# Altium footprint library DSD_Aerobits_RPI4_OLED.PcbLib: 32 footprints (part 1 of 2)
Each footprint in its own frame and in the unit in brackets; x right, y up, seen from the top. Pads: shape width x height; smd on the part's side, far side on the other; paste and mask are expansions set on the pad; w line width, h text height; cw(c..) or ccw(c..) is an arc to the next point about the centre after c.
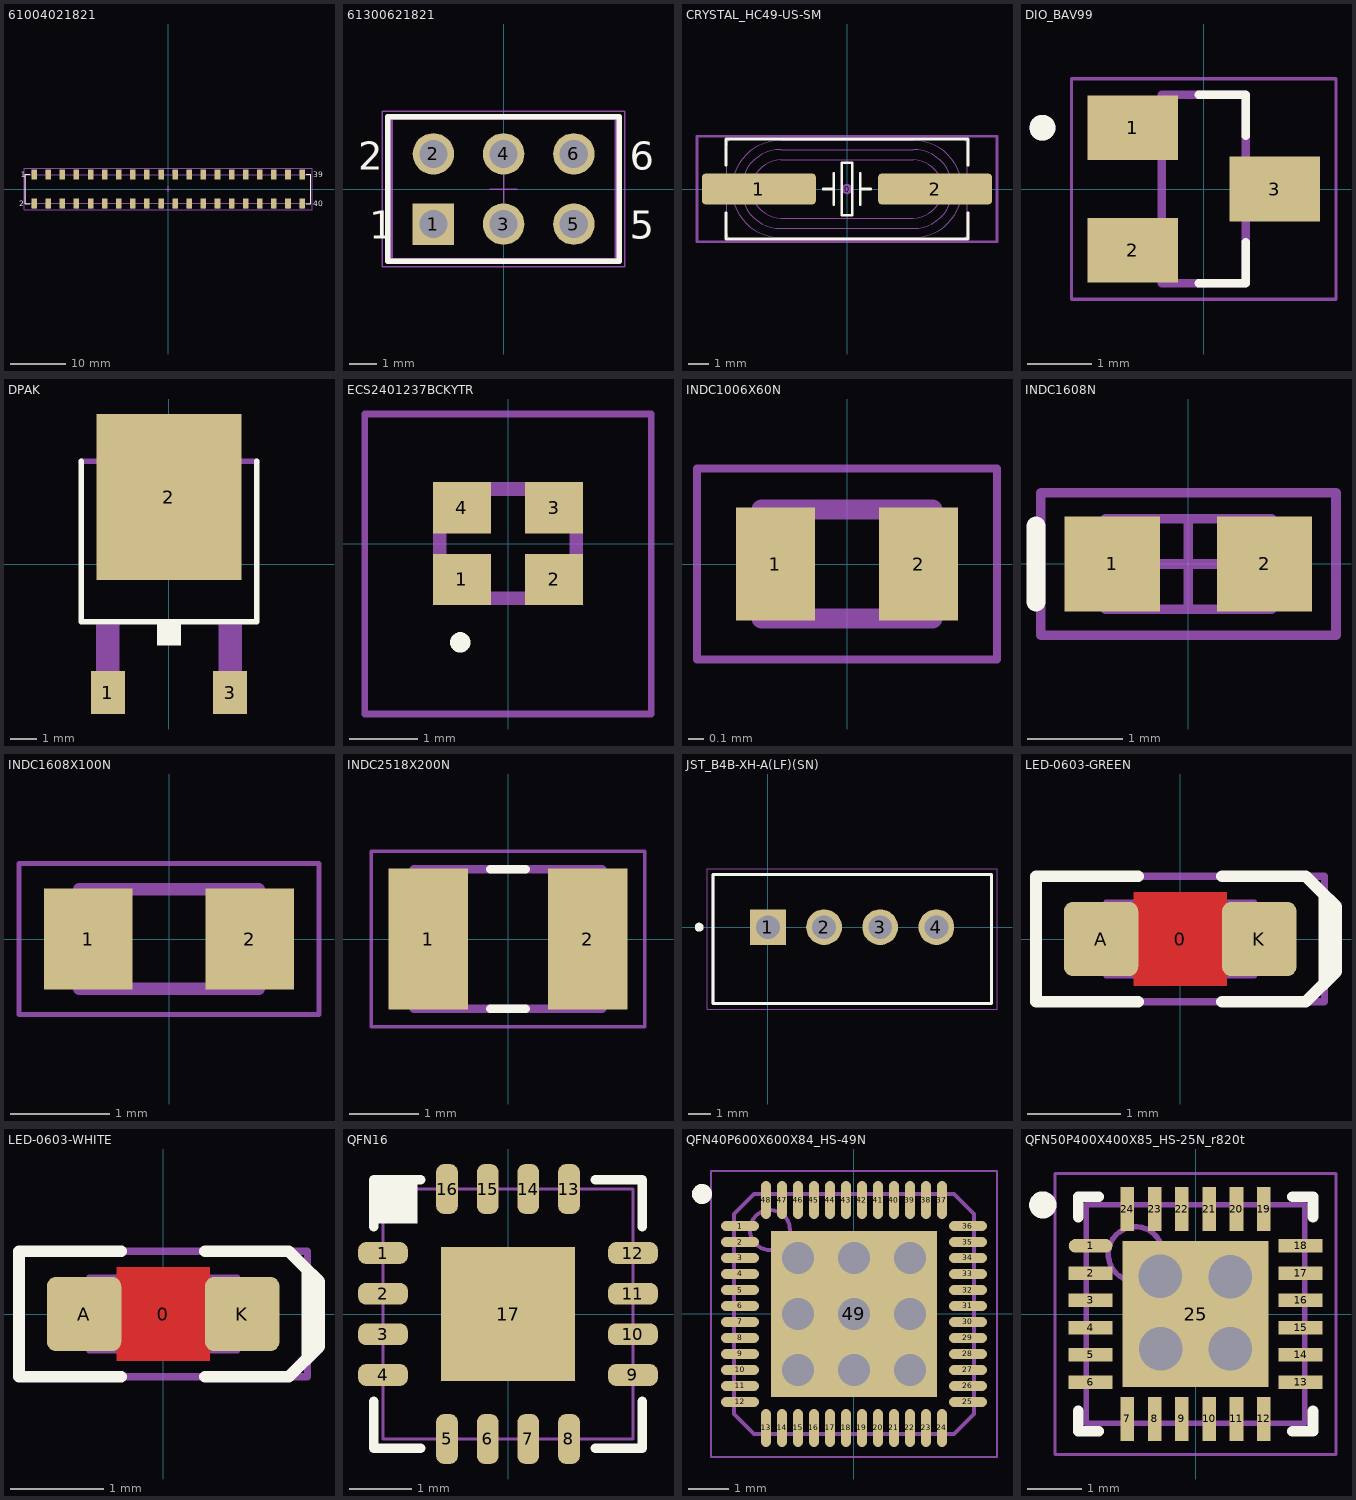
[diagram p0: the footprints below, top view; thin cyan lines are the x and y axes]

## 61004021821 [mm]
pads (40):
  rect 1x1.8 smd: 1(-24.13,2.6) 2(-24.13,-2.6) 3(-21.59,2.6) 4(-21.59,-2.6) 5(-19.05,2.6) 6(-19.05,-2.6) 7(-16.51,2.6) 8(-16.51,-2.6) 9(-13.97,2.6) 10(-13.97,-2.6) 11(-11.43,2.6) 12(-11.43,-2.6) 13(-8.89,2.6) 14(-8.89,-2.6) 15(-6.35,2.6) 16(-6.35,-2.6) 17(-3.81,2.6) 18(-3.81,-2.6) 19(-1.27,2.6) 20(-1.27,-2.6) 21(1.27,2.6) 22(1.27,-2.6) 23(3.81,2.6) 24(3.81,-2.6) 25(6.35,2.6) 26(6.35,-2.6) 27(8.89,2.6) 28(8.89,-2.6) 29(11.43,2.6) 30(11.43,-2.6) 31(13.97,2.6) 32(13.97,-2.6) 33(16.51,2.6) 34(16.51,-2.6) 35(19.05,2.6) 36(19.05,-2.6) 37(21.59,2.6) 38(21.59,-2.6) 39(24.13,2.6) 40(24.13,-2.6)
Top Overlay:
  lines w0.2: -24.91,-2.615 -25.725,-2.615 -25.725,2.615 -24.91,2.615 ; 24.91,-2.615 25.725,-2.615 25.725,2.615 24.91,2.615
  text "1" at -26.51,2.1 h1.02
  text "2" at -26.86,-3.15 h1.02
  text "39" at 26.16,2.1 h1.02
  text "40" at 26.16,-3.15 h1.02
Mechanical 13:
  lines w0.1: -24.45,-2.54 -24.45,-3.35 -23.81,-3.35 -23.81,-2.54 ; -24.45,2.54 -24.45,3.35 -23.81,3.35 -23.81,2.54 ; -21.91,-2.54 -21.91,-3.35 -21.27,-3.35 -21.27,-2.54 ; -21.91,2.54 -21.91,3.35 -21.27,3.35 -21.27,2.54 ; -19.37,-2.54 -19.37,-3.35 -18.73,-3.35 -18.73,-2.54 ; -19.37,2.54 -19.37,3.35 -18.73,3.35 -18.73,2.54 ; -16.83,-2.54 -16.83,-3.35 -16.19,-3.35 -16.19,-2.54 ; -16.83,2.54 -16.83,3.35 -16.19,3.35 -16.19,2.54 ; -14.29,-2.54 -14.29,-3.35 -13.65,-3.35 -13.65,-2.54 ; -14.29,2.54 -14.29,3.35 -13.65,3.35 -13.65,2.54 ; -11.75,-2.54 -11.75,-3.35 -11.11,-3.35 -11.11,-2.54 ; -11.75,2.54 -11.75,3.35 -11.11,3.35 -11.11,2.54 ; -9.21,-2.54 -9.21,-3.35 -8.57,-3.35 -8.57,-2.54 ; -9.21,2.54 -9.21,3.35 -8.57,3.35 -8.57,2.54 ; -6.67,-2.54 -6.67,-3.35 -6.03,-3.35 -6.03,-2.54 ; -6.67,2.54 -6.67,3.35 -6.03,3.35 -6.03,2.54 ; -4.13,-2.54 -4.13,-3.35 -3.49,-3.35 -3.49,-2.54 ; -4.13,2.54 -4.13,3.35 -3.49,3.35 -3.49,2.54 ; -1.59,-2.54 -1.59,-3.35 -0.95,-3.35 -0.95,-2.54 ; -1.59,2.54 -1.59,3.35 -0.95,3.35 -0.95,2.54 ; 0.95,-2.54 0.95,-3.35 1.59,-3.35 1.59,-2.54 ; 0.95,2.54 0.95,3.35 1.59,3.35 1.59,2.54 ; 3.49,-2.54 3.49,-3.35 4.13,-3.35 4.13,-2.54 ; 3.49,2.54 3.49,3.35 4.13,3.35 4.13,2.54 ; 6.03,-2.54 6.03,-3.35 6.67,-3.35 6.67,-2.54 ; 6.03,2.54 6.03,3.35 6.67,3.35 6.67,2.54 ; 8.57,-2.54 8.57,-3.35 9.21,-3.35 9.21,-2.54 ; 8.57,2.54 8.57,3.35 9.21,3.35 9.21,2.54 ; 11.11,-2.54 11.11,-3.35 11.75,-3.35 11.75,-2.54 ; 11.11,2.54 11.11,3.35 11.75,3.35 11.75,2.54 ; 13.65,-2.54 13.65,-3.35 14.29,-3.35 14.29,-2.54 ; 13.65,2.54 13.65,3.35 14.29,3.35 14.29,2.54 ; 16.19,-2.54 16.19,-3.35 16.83,-3.35 16.83,-2.54 ; 16.19,2.54 16.19,3.35 16.83,3.35 16.83,2.54 ; 18.73,-2.54 18.73,-3.35 19.37,-3.35 19.37,-2.54 ; 18.73,2.54 18.73,3.35 19.37,3.35 19.37,2.54 ; 21.27,-2.54 21.27,-3.35 21.91,-3.35 21.91,-2.54 ; 21.27,2.54 21.27,3.35 21.91,3.35 21.91,2.54 ; 23.81,-2.54 23.81,-3.35 24.45,-3.35 24.45,-2.54 ; 23.81,2.54 23.81,3.35 24.45,3.35 24.45,2.54 ; -25.65,-2.54 25.65,-2.54 25.65,2.54 -25.65,2.54 -25.65,-2.54
Mechanical 15:
  lines w0.05: -0.5,0 0.5,0 ; 0,-0.5 0,0.5 ; -25.925,-3.7 25.925,-3.7 25.925,3.7 -25.925,3.7 -25.925,-3.7
3D body "61004021821.stp": height 7.5, standoff 0, extent -25.4,-3.35 25.4,3.35

## 61300621821 [mm]
pads (6):
  rect 1.5x1.5 hole 1.02: 1(-2.54,-1.27)
  round 1.5 hole 1.02: 2(-2.54,1.27) 3(0,-1.27) 4(0,1.27) 5(2.54,-1.27) 6(2.54,1.27)
Top Overlay:
  lines w0.2: -4.185,-2.615 -4.185,2.615 4.185,2.615 4.185,-2.615 -4.185,-2.615
  text "5" at 4.57,-1.8 h1.02
  text "6" at 4.57,0.7 h1.02
  text "2" at -5.27,0.7 h1.02
  text "1" at -4.87,-1.8 h1.02
Mechanical 13:
  lines w0.1: -4.06,-2.54 4.06,-2.54 4.06,2.54 -4.06,2.54 -4.06,-2.54
Mechanical 15:
  lines w0.05: -0.5,0 0.5,0 ; 0,-0.5 0,0.5 ; -4.385,-2.815 4.385,-2.815 4.385,2.815 -4.385,2.815 -4.385,-2.815
3D body "61300621821.stp": height 8.45, standoff -3.05, extent -4.06,-2.54 4.06,2.54

## CRYSTAL_HC49-US-SM [mm]
pads (3):
  round 0.508 on Mech15: 0(0,0)
  rrect25% 5.5x1.5 smd: 1(-4.25,0) 2(4.25,0)
Top Overlay:
  lines w0.127: -5.842,-1.143 -5.842,-2.413 5.842,-2.413 5.842,-1.143 ; -5.842,1.143 -5.842,2.413 5.842,2.413 5.842,1.143 ; -1.143,0 -0.635,0 ; -0.635,-0.762 -0.635,0.762 ; 0.635,-0.762 0.635,0.762 ; 0.635,0 1.143,0 ; -0.254,-1.27 -0.254,1.27 0.254,1.27 0.254,-1.27 -0.254,-1.27
Mechanical 13:
  lines w0.05: -5.8,-0.45 -6.4,-0.45 -6.4,0.45 -5.8,0.45 ; 5.8,-0.45 6.4,-0.45 6.4,0.45 5.8,0.45 ; -5.8,-2.165 ccw(c-5.55,-2.165) -5.55,-2.415 5.55,-2.415 ccw(c5.55,-2.165) 5.8,-2.165 5.8,2.165 ccw(c5.55,2.165) 5.55,2.415 -5.55,2.415 ccw(c-5.55,2.165) -5.8,2.165 -5.8,-2.165 ; -3.2,-2.35 cw(c-3.2,0) -3.2,2.35 3.2,2.35 cw(c3.2,0) 3.2,-2.35 -3.2,-2.35 ; -3.2,-1.9 cw(c-3.2,0) -3.2,1.9 3.2,1.9 cw(c3.2,0) 3.2,-1.9 -3.2,-1.9 ; -3.2,-1.4 cw(c-3.2,0) -3.2,1.4 3.2,1.4 cw(c3.2,0) 3.2,-1.4 -3.2,-1.4
Mechanical 15:
  lines w0.127: -7.239,-2.54 -7.239,2.54 7.239,2.54 7.239,-2.54 -7.239,-2.54
3D body "Crystal HC49_US-SM.STEP": height 4.29, standoff -0.01, extent -6.4,-2.415 6.4,2.415

## DIO_BAV99 [mm]
pads (3):
  rect 1.4x1 smd: 1(-1.1,0.95) 2(-1.1,-0.95) 3(1.1,0)
Top Overlay:
  circle w0.2: c-2.5,0.95 r0.1
  lines w0.127: -0.08,-1.46 0.65,-1.46 0.65,-0.82 ; -0.08,1.46 0.65,1.46 0.65,0.82
Mechanical 13:
  circle w0.2: c-2.5,0.95 r0.1
  lines w0.127: -0.65,-1.46 -0.65,1.46 0.65,1.46 0.65,-1.46 -0.65,-1.46
Mechanical 15:
  lines w0.05: -2.05,-1.71 -2.05,1.71 2.05,1.71 2.05,-1.71 -2.05,-1.71
3D body "step_temp.STEP": height 1.2, standoff 0, extent -1.2,-1.46 1.2,1.46

## DPAK [mm]
pads (3):
  rect 1.27x1.6 smd: 1(-2.28,-4.8) 3(2.28,-4.8)
  rect 5.4x6.2 smd: 2(0,2.5)
Top Overlay:
  region: 0.432,-3.027 -0.432,-3.027 -0.432,-2.261 0.432,-2.261
  lines w0.203: -3.277,3.835 -3.277,-2.159 3.277,-2.159 3.277,3.835
Mechanical 13:
  region: 2.565,4.648 2.565,3.937 -2.565,3.937 -2.565,4.648 -2.108,5.105 2.108,5.105
  region: 2.718,-5.163 1.856,-5.163 1.856,-2.261 2.718,-2.261
  region: -1.854,-5.166 -2.723,-5.166 -2.723,-2.261 -1.854,-2.261
  lines w0.203: -3.277,3.835 3.277,3.835 ; -2.565,3.937 2.565,3.937 2.565,4.648 2.108,5.105 -2.108,5.105 -2.565,4.648 -2.565,3.937
3D body "User Library-TO-252-3.step": height 2.41, standoff 0, extent -3.35,-5.461 3.35,4.891

## ECS2401237BCKYTR [mm]
pads (4):
  rect 0.85x0.75 smd: 1(-0.675,-0.525) 2(0.675,-0.525) 3(0.675,0.525) 4(-0.675,0.525)
Top Overlay:
  lines w0.2: -0.7,-1.5 cw(c-0.7,-1.45) -0.7,-1.4 ; -0.7,-1.5 ccw(c-0.7,-1.45) -0.7,-1.4 ; -0.7,-1.5 cw(c-0.7,-1.45) -0.7,-1.4
Mechanical 13:
  lines w0.2: -1,-0.8 -1,0.8 1,0.8 1,-0.8 -1,-0.8
Mechanical 15:
  lines w0.1: -2.1,-2.5 -2.1,1.9 2.1,1.9 2.1,-2.5 -2.1,-2.5
3D body "ECS-240-12-37B-CKY-TR.stp": height 0.6, standoff 0, extent -1.025,-0.825 1.025,0.825

## INDC1006X60N [mm]
pads (2):
  rect 0.51x0.73 smd: 1(-0.46,0) 2(0.46,0)
Mechanical 13:
  lines w0.127: -0.55,-0.35 -0.55,0.35 0.55,0.35 0.55,-0.35 -0.55,-0.35
Mechanical 15:
  lines w0.05: -0.965,-0.615 -0.965,0.615 0.965,0.615 0.965,-0.615 -0.965,-0.615
3D body "LQW15AN8N2G00D.STEP": height 0.6, standoff 0, extent -0.54,-0.3 0.46,0.3

## INDC1608N [mm]
pads (2):
  rect 1x1 smd: 1(-0.8,0) 2(0.8,0)
Top Overlay:
  lines w0.2: -1.6,-0.4 -1.6,0.4
Mechanical 13:
  lines w0.1: -0.875,-0.475 0.875,-0.475 0.875,0.475 -0.875,0.475 -0.875,-0.475
Mechanical 15:
  lines w0.1: -0.475,0 0.475,0 ; 0,-0.475 0,0.475 ; -1.55,-0.75 1.55,-0.75 1.55,0.75 -1.55,0.75 -1.55,-0.75
3D body: height 0.71, standoff 0, extent -0.875,-0.475 0.875,0.475

## INDC1608X100N [mm]
pads (2):
  rect 0.89x1.02 smd: 1(-0.814,0) 2(0.814,0)
Mechanical 13:
  lines w0.127: -0.9,-0.5 -0.9,0.5 0.9,0.5 0.9,-0.5 -0.9,-0.5
Mechanical 15:
  lines w0.05: -1.508,-0.758 -1.508,0.758 1.508,0.758 1.508,-0.758 -1.508,-0.758
3D body "LQW18ANR15J00D.STEP": height 1, standoff 0, extent -0.8,-0.381 0.8,0.419

## INDC2518X200N [mm]
pads (2):
  rect 1.14x2.02 smd: 1(-1.14,0) 2(1.14,0)
Top Overlay:
  lines w0.127: -0.25,-1 0.25,-1 ; -0.25,1 0.25,1
Mechanical 13:
  lines w0.127: -1.35,-1 -1.35,1 1.35,1 1.35,-1 -1.35,-1
Mechanical 15:
  lines w0.05: -1.958,-1.258 -1.958,1.258 1.958,1.258 1.958,-1.258 -1.958,-1.258
3D body "CB2518T4R7M.STEP": height 1.81, standoff 0.01, extent -1.27,-1.003 1.23,0.997

## JST_B4B-XH-A(LF)(SN) [mm]
pads (4):
  rect 1.59x1.59 hole 1.06: 1(0,0)
  round 1.59 hole 1.06: 2(2.5,0) 3(5,0) 4(7.5,0)
Top Overlay:
  circle w0.2: c-3.06,0 r0.1
  lines w0.127: -2.45,-3.4 9.95,-3.4 9.95,2.35 -2.45,2.35 -2.45,-3.4
Mechanical 13:
  lines w0.127: -2.45,-3.4 9.95,-3.4 9.95,2.35 -2.45,2.35 -2.45,-3.4
Mechanical 15:
  lines w0.05: -2.7,-3.65 10.2,-3.65 10.2,2.6 -2.7,2.6 -2.7,-3.65
3D body "step_temp.STEP": height 7, standoff -3.4, extent -2.45,-3.4 9.95,2.35

## LED-0603-GREEN [mm]
pads (3):
  round 0.254 on Mech15: 0(0,0)
  rrect25% 0.8x0.8 smd: A(-0.85,0) K(0.85,0)
Top Layer:
  pour cut-out: -0.5,0.5 0.5,0.5 0.5,-0.5 -0.5,-0.5
Top Overlay:
  lines w0.127: -0.45,-0.675 -1.55,-0.675 -1.55,0.675 -0.45,0.675 ; 0.45,-0.675 1.35,-0.675 1.55,-0.475 1.55,0.475 1.35,0.675 0.45,0.675 ; 1.5,0.525 1.675,0.35 1.675,-0.35 1.525,-0.5
Mechanical 13:
  lines w0.05: -0.6,-0.4 -0.6,0.399 0.6,0.4 0.6,-0.4 -0.6,-0.399 ; -0.505,-0.398 -0.505,0.398 ; -0.5,-0.4 -0.8,-0.4 -0.8,0.4 -0.5,0.4 ; 0.5,-0.4 0.8,-0.4 0.8,0.4 0.5,0.4 ; 0.505,-0.398 0.505,0.398 ; -0.599,-0.398 -0.599,0.398 0.599,0.398 0.599,-0.398 -0.599,-0.398
Mechanical 15:
  lines w0.076: -1.55,-0.675 1.55,-0.675 1.55,0.675 -1.55,0.675 -1.55,-0.675
3D body "LED 0603 APT1608 GREEN.STEP": height 0.75, standoff 0, extent -0.8,-0.4 0.8,0.4

## LED-0603-WHITE [mm]
pads (3):
  round 0.254 on Mech15: 0(0,0)
  rrect25% 0.8x0.8 smd: A(-0.85,0) K(0.85,0)
Top Layer:
  pour cut-out: -0.5,0.5 0.5,0.5 0.5,-0.5 -0.5,-0.5
Top Overlay:
  lines w0.127: -0.45,-0.675 -1.55,-0.675 -1.55,0.675 -0.45,0.675 ; 0.45,-0.675 1.35,-0.675 1.55,-0.475 1.55,0.475 1.35,0.675 0.45,0.675 ; 1.5,0.525 1.675,0.35 1.675,-0.35 1.525,-0.5
Mechanical 13:
  lines w0.05: -0.6,-0.4 -0.6,0.399 0.6,0.4 0.6,-0.4 -0.6,-0.399 ; -0.505,-0.398 -0.505,0.398 ; -0.5,-0.4 -0.8,-0.4 -0.8,0.4 -0.5,0.4 ; 0.5,-0.4 0.8,-0.4 0.8,0.4 0.5,0.4 ; 0.505,-0.398 0.505,0.398 ; -0.599,-0.398 -0.599,0.398 0.599,0.398 0.599,-0.398 -0.599,-0.398
Mechanical 15:
  lines w0.076: -1.55,-0.675 1.55,-0.675 1.55,0.675 -1.55,0.675 -1.55,-0.675
3D body "LED 0603 APT1608 WHITE.STEP": height 0.75, standoff 0, extent -0.8,-0.4 0.8,0.4

## QFN16 [mm]
pads (17):
  rrect75% 0.8x0.35 smd: 1(-2,0.975) 2(-2,0.325) 3(-2,-0.325) 4(-2,-0.975) 9(2,-0.975) 10(2,-0.325) 11(2,0.325) 12(2,0.975)
  rrect75% 0.35x0.8 smd: 5(-0.975,-2) 6(-0.325,-2) 7(0.325,-2) 8(0.975,-2) 13(0.975,2) 14(0.325,2) 15(-0.325,2) 16(-0.975,2)
  rect 2.15x2.15 smd: 17(0,0)
Top Overlay:
  region: -1.45,1.45 -2.15,1.45 -2.15,2.15 -1.45,2.15
  lines w0.152: -2.15,-1.4 -2.15,-2.15 -1.4,-2.15 ; -2.15,1.4 -2.15,2.15 -1.4,2.15 ; 1.4,-2.15 2.15,-2.15 2.15,-1.4 ; 1.4,2.15 2.15,2.15 2.15,1.4
Mechanical 13:
  lines w0.051: -2,-2 2,-2 2,2 -2,2 -2,-2
3D body "FT230XQ.STEP": height 0.8, standoff 0, extent -2.022,-2.026 1.978,1.974

## QFN40P600X600X84_HS-49N [mm]
pads (49):
  oval 0.95x0.25 smd: 1(-2.85,2.2) 2(-2.85,1.8) 3(-2.85,1.4) 4(-2.85,1) 5(-2.85,0.6) 6(-2.85,0.2) 7(-2.85,-0.2) 8(-2.85,-0.6) 9(-2.85,-1) 10(-2.85,-1.4) 11(-2.85,-1.8) 12(-2.85,-2.2) 25(2.85,-2.2) 26(2.85,-1.8) 27(2.85,-1.4) 28(2.85,-1) 29(2.85,-0.6) 30(2.85,-0.2) 31(2.85,0.2) 32(2.85,0.6) 33(2.85,1) 34(2.85,1.4) 35(2.85,1.8) 36(2.85,2.2)
  oval 0.25x0.95 smd: 13(-2.2,-2.85) 14(-1.8,-2.85) 15(-1.4,-2.85) 16(-1,-2.85) 17(-0.6,-2.85) 18(-0.2,-2.85) 19(0.2,-2.85) 20(0.6,-2.85) 21(1,-2.85) 22(1.4,-2.85) 23(1.8,-2.85) 24(2.2,-2.85) 37(2.2,2.85) 38(1.8,2.85) 39(1.4,2.85) 40(1,2.85) 41(0.6,2.85) 42(0.2,2.85) 43(-0.2,2.85) 44(-0.6,2.85) 45(-1,2.85) 46(-1.4,2.85) 47(-1.8,2.85) 48(-2.2,2.85)
  rect 4.14x4.14 smd: 49(0,0)
via -1.397,0 diameter 1 hole 0.8
via -1.397,-1.397 diameter 1 hole 0.8
via 0,0 diameter 1 hole 0.8
via 0,-1.397 diameter 1 hole 0.8
via 1.397,-1.397 diameter 1 hole 0.8
via 1.397,0 diameter 1 hole 0.8
via 0,1.397 diameter 1 hole 0.8
via -1.397,1.397 diameter 1 hole 0.8
via 1.397,1.397 diameter 1 hole 0.8
Top Overlay:
  circle w0.25: c-3.8,3 r0.125
Mechanical 13:
  circle w0.1: c-2.1,2.1 r0.5
  lines w0.1: -3,-2.5 -3,2.5 -2.5,3 2.5,3 3,2.5 3,-2.5 2.5,-3 -2.5,-3 -3,-2.5
Mechanical 15:
  lines w0.05: -3.575,-3.575 3.575,-3.575 3.575,3.575 -3.575,3.575 -3.575,-3.575
  lines w0.1: -0.5,0 0.5,0 ; 0,-0.5 0,0.5
3D body "User Library-RTL2832U.step": height 0.85, standoff 0, extent -2.97,-3.013 3.03,2.987

## QFN50P400X400X85_HS-25N_r820t [mm]
pads (25):
  oval 0.8x0.25 smd: 1(-1.925,1.25)
  rect 0.8x0.25 smd: 2(-1.925,0.75) 3(-1.925,0.25) 4(-1.925,-0.25) 5(-1.925,-0.75) 6(-1.925,-1.25) 13(1.925,-1.25) 14(1.925,-0.75) 15(1.925,-0.25) 16(1.925,0.25) 17(1.925,0.75) 18(1.925,1.25)
  rect 0.25x0.8 smd: 7(-1.25,-1.925) 8(-0.75,-1.925) 9(-0.25,-1.925) 10(0.25,-1.925) 11(0.75,-1.925) 12(1.25,-1.925) 19(1.25,1.925) 20(0.75,1.925) 21(0.25,1.925) 22(-0.25,1.925) 23(-0.75,1.925) 24(-1.25,1.925)
  rect 2.68x2.68 smd: 25(0,0)
via 0.635,-0.635 diameter 1 hole 0.8
via -0.638,-0.637 diameter 1 hole 0.8
via -0.644,0.694 diameter 1 hole 0.8
via 0.636,0.683 diameter 1 hole 0.8
Top Overlay:
  circle w0.25: c-2.8,2 r0.125
  lines w0.2: -2.15,-1.775 -2.15,-2.15 -1.775,-2.15 ; -2.15,1.775 -2.15,2.15 -1.775,2.15 ; 1.775,-2.15 2.15,-2.15 2.15,-1.775 ; 1.775,2.15 2.15,2.15 2.15,1.775
Mechanical 13:
  circle w0.1: c-1.1,1.1 r0.5
  lines w0.1: -2,-2 -2,2 2,2 2,-2 -2,-2
Mechanical 15:
  lines w0.05: -2.575,-2.575 -2.575,2.575 2.575,2.575 2.575,-2.575 -2.575,-2.575
  lines w0.1: -0.5,0 0.5,0 ; 0,-0.5 0,0.5
3D body "QFN50P400X400X85_HS-25N.step": height 0.85, standoff 0, extent -2.02,-2.02 2.02,2.02